# Altium schematic symbol library ATMEGA328P-MUR.SchLib: 1 symbol
Pins are listed as number, name and electrical type; pins without a type are passive.

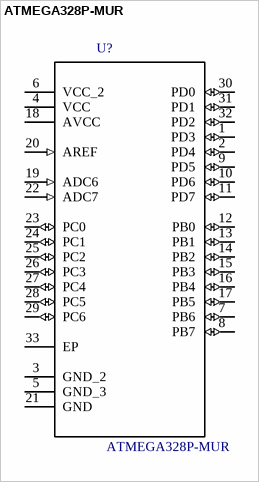
[diagram p0: symbol ATMEGA328P-MUR]

## ATMEGA328P-MUR
designator U?
/ AVR AVRÂ® ATmega Microcontroller IC 8-Bit 20MHz 32KB _16K x 16_ FLASH 32-VQFN _5x5_ /; MF: Microchip; MP: ATMEGA328P-MUR; SnapEDA_Link: https://www.snapeda.com/parts/ATMEGA328P-MUR/Microchip/view-part/590465/?ref=snap; Price: None; Package: VQFN-32 Microchip; Availability: Unavailable; Value: *
footprint *QFN50P500X500X100-33N
pins: 1 PD3 (io), 2 PD4 (io), 3 GND_2, 4 VCC (power), 5 GND_3, 6 VCC_2 (power), 7 PB6 (io), 8 PB7 (io), 9 PD5 (io), 10 PD6 (io), 11 PD7 (io), 12 PB0 (io), 13 PB1 (io), 14 PB2 (io), 15 PB3 (io), 16 PB4 (io), 17 PB5 (io), 18 AVCC (power), 19 ADC6 (in), 20 AREF (in), 21 GND, 22 ADC7 (in), 23 PC0 (io), 24 PC1 (io), 25 PC2 (io), 26 PC3 (io), 27 PC4 (io), 28 PC5 (io), 29 PC6 (io), 30 PD0 (io), 31 PD1 (io), 32 PD2 (io), 33 EP